# Altium schematic symbol library IO-testing-mezzanine.SchLib: 9 symbols
Pins are listed as number, name and electrical type; pins without a type are passive.

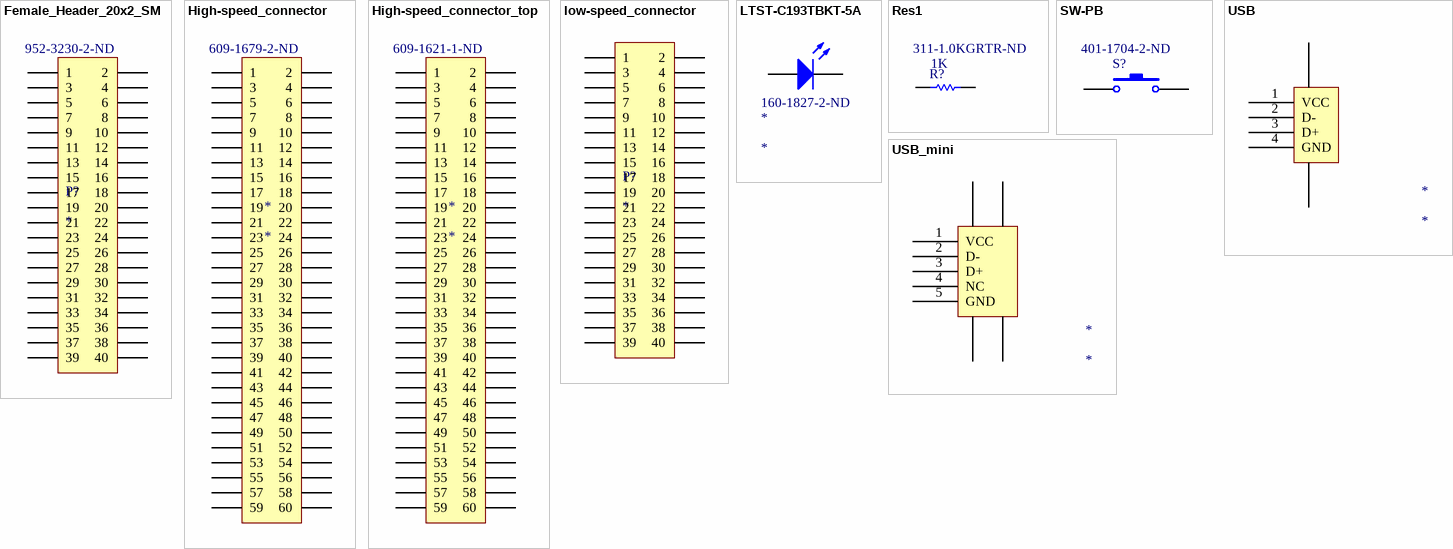
[diagram p0: symbols Female_Header_20x2_SM to USB_mini]

## Female_Header_20x2_SM
designator P?  Supplier Part Number 1: 952-3230-2-ND
Supplier 1: Digi-Key
footprint Female_Header_20x2_SM (Surface mount Female header / 2.54mm pitch)
pins: 1, 2, 3, 4, 5, 6, 7, 8, 9, 10, 11, 12, 13, 14, 15, 16, 17, 18, 19, 20, 21, 22, 23, 24, 25, 26, 27, 28, 29, 30, 31, 32, 33, 34, 35, 36, 37, 38, 39, 40

## High-speed_connector
designator *  Supplier Part Number 1: 609-1679-2-ND
Supplier 1: Digi-Key
footprint high-speed_connector (through hole low-speed connector / 2mm pitch)
pins: 1, 2, 3, 4, 5, 6, 7, 8, 9, 10, 11, 12, 13, 14, 15, 16, 17, 18, 19, 20, 21, 22, 23, 24, 25, 26, 27, 28, 29, 30, 31, 32, 33, 34, 35, 36, 37, 38, 38 60, 39, 39 57, 40, 41, 42, 43, 44, 45, 46, 47, 48, 49, 50, 51, 52, 53, 54, 55, 56, 58, 59

## High-speed_connector_top
designator *  Supplier Part Number 1: 609-1621-1-ND
Manufacturer: Amphenol FCI; Manufacturer Part Number: 61082-062402LF; Description: CONN RECEPT 60POS .8MM DUAL SMD; Connector Type: Receptacle, Outer Shroud Contacts; Number of Positions: 60; Pitch: 0.031" (0.80mm); Mated Stacking Heights: 9mm, 10mm, 11mm, 12mm; Supplier 1: Digi-Key; RoHS: RoHS Compliant; Category: Connectors, Interconnects; Stock 1: 4; Pricing 1: 1=8.5, 10=8.143, 25=7.4344, 50=7.0804, 100=6.7264, 250=6.0184 (CAD); Packaging: Cut Tape (CT); Part Status: Active; Number of Rows: 2; Mounting Type: Surface Mount; Features: Board Guide; Contact Finish: Gold; Contact Finish Thickness: 8µin (0.20µm); Height Above Board: 0.303" (7.70mm); ComponentLink1URL: http://portal.fciconnect.com/Comergent//fci/drawing/61082.pdf; ComponentLink1Description: http://portal.fciconnect.com/Comergent//fci/drawing/61082.pdf
footprint high-speed_connector_top (high-speed connector)
pins: 1, 2, 3, 4, 5, 6, 7, 8, 9, 10, 11, 12, 13, 14, 15, 16, 17, 18, 19, 20, 21, 22, 23, 24, 25, 26, 27, 28, 29, 30, 31, 32, 33, 34, 35, 36, 37, 38, 38 60, 39, 39 57, 40, 41, 42, 43, 44, 45, 46, 47, 48, 49, 50, 51, 52, 53, 54, 55, 56, 58, 59

## low-speed_connector
designator P?
footprint low-speed_connector_TH (through hole low-speed connector / 2mm pitch)
pins: 1, 2, 3, 4, 5, 6, 7, 8, 9, 10, 11, 12, 13, 14, 15, 16, 17, 18, 19, 20, 21, 22, 23, 24, 25, 26, 27, 28, 29, 30, 31, 32, 33, 34, 35, 36, 37, 38, 39, 40

## LTST-C193TBKT-5A
designator *  Supplier Part Number 1: 160-1827-2-ND
LED BLUE CLEAR 0603 SMD; Manufacturer: Lite-On Inc.; Manufacturer Part Number: LTST-C193TBKT-5A; Lens Color: Colorless; Millicandela Rating: 15mcd; Lens Style/Size: Rectangle with Flat Top, 1.15mm x 0.80mm; Voltage - Forward (Vf) (Typ): 2.8V; Current - Test: 5mA; Viewing Angle: 130°; Wavelength - Dominant: 470nm; Wavelength - Peak: 468nm; Supplier 1: Digi-Key; RoHS: RoHS Compliant; Category: Optoelectronics; Stock 1: 456000; Pricing 1: 3000=0.091, 6000=0.0819, 15000=0.0728, 30000=0.06825, 75000=0.06142, 150000=0.05915 (CAD); Packaging: Tape & Reel (TR); Part Status: Active; Color: Blue; Lens Transparency: Clear; Mounting Type: Surface Mount; Features: -; Package / Case: 0603 (1608 Metric); Supplier Device Package: Chip LED; Size / Dimension: 1.60mm L x 0.80mm W; Height (Max): 0.45mm; ComponentLink1URL: http://media.digikey.com/pdf/Data%20Sheets/Lite-On%20PDFs/LTST-C193TBKT-5A.pdf; ComponentLink1Description: http://media.digikey.com/pdf/Data%20Sheets/Lite-On%20PDFs/LTST-C193TBKT-5A.pdf
footprint LED_0603 (Chip LED, 2-Leads, Body 1.6x0.8mm, IPC Medium Density)
pins: 1 A, 2 K

## Res1
designator R?  value 1K  Supplier Part Number 1: 311-1.0KGRTR-ND
Resistor; Published: 8-Jun-2000; LatestRevisionDate: 17-Jul-2002; LatestRevisionNote: Re-released for DXP Platform.; PackageReference: AXIAL-0.3; Publisher: Altium Limited; PackageDescription: Axial Device, Thru-Hole; 2 Leads; 0.3 in Pin Spacing; Supplier 1: Digi-Key
footprint 0603
pins: 1, 2

## SW-PB
designator S?  Supplier Part Number 1: 401-1704-2-ND
Switch; Manufacturer: C&K; Manufacturer Part Number: KSR223GLFG; Circuit: SPST-NO; Switch Function: Off-Mom; Contact Rating @ Voltage: 0.01A @ 32VDC; Actuator Type: Standard; Actuator Height off PCB, Vertical: 2.50mm; Actuator Orientation: Top Actuated; Outline: 6.00mm x 3.80mm; Illumination: Non-Illuminated; Operating Force: 200gf; Ingress Protection: IP50 - Dust Protected; Actuator Material: Rubber; Switch Travel: 0.30mm; Mechanical Life: 100,000 Cycles; Published: 24-Mar-1999; LatestRevisionDate: 17-Jul-2002; LatestRevisionNote: Re-released for DXP Platform.; PackageReference: SPST-2; Publisher: Altium Limited; PackageDescription: Switch; 2 Leads; Supplier 1: Digi-Key; RoHS: RoHS Compliant; Category: Switches; Stock 1: 37500; Pricing 1: 2500=0.58856, 5000=0.54797 (CAD); Packaging: Tape & Reel (TR); Part Status: Active; Mounting Type: Surface Mount; Actuator Length, Right Angle: -; Termination Style: Gull Wing; Illumination Type, Color: -; Illumination Voltage (Nominal): -; Features: -; Operating Temperature: -40°C ~ 125°C; ComponentLink1URL: http://www.ckswitches.com/media/1466/ksr.pdf; ComponentLink1Description: http://www.ckswitches.com/media/1466/ksr.pdf
footprint SW-PB (Chip LED, 2-Leads, Body 1.6x0.8mm, IPC Medium Density)
pins: 1, 2

## USB
designator *
Manufacturer: Amphenol Commercial Products; Manufacturer Part Number: UE27AC54100; Connector Type: USB - A; Number of Contacts: 4; Gender: Receptacle; Specifications: USB 2.0; Number of Ports: 1; Current Rating: 1A per Contact; Voltage - Rated: 30VAC; Mating Cycles: 1500; Shielding: Shielded; Material Flammability Rating: UL94 V-0; Supplier 1: Digi-Key; RoHS: RoHS Compliant; Category: Connectors, Interconnects; Stock 1: 47486; Pricing 1: 1=0.54, 10=0.507, 25=0.4568, 50=0.4058, 100=0.389, 250=0.35512, 500=0.33822, 1000=0.27904, 2500=0.25367 (CAD); Packaging: Tray; Part Status: Active; Mounting Type: Through Hole, Right Angle; Mounting Feature: Horizontal; Termination: Solder; Features: Board Lock; Ingress Protection: -; Operating Temperature: -40°C ~ 85°C; Contact Finish: Gold; Shell/Shielding Material: Copper Alloy; Insulation Color: Black; ComponentLink1URL: https://www.amphenolcanada.com/ProductSearch/drawings/AC/UE27ACX4X0X.pdf; ComponentLink1Description: https://www.amphenolcanada.com/ProductSearch/drawings/AC/UE27ACX4X0X.pdf; Supplier Part Number 1: UE27AC54100-ND
footprint USB
footprint USB_a (Mini USB)
pins: 1 VCC (power), 2 D-, 3 D+, 4 GND (power), 5 GND (power), 6 GND (power)

## USB_mini
designator *
Manufacturer: Amphenol Commercial Products; Manufacturer Part Number: UE27AC54100; Connector Type: USB - A; Number of Contacts: 4; Gender: Receptacle; Specifications: USB 2.0; Number of Ports: 1; Current Rating: 1A per Contact; Voltage - Rated: 30VAC; Mating Cycles: 1500; Shielding: Shielded; Material Flammability Rating: UL94 V-0; RoHS: RoHS Compliant; Category: Connectors, Interconnects; Packaging: Tray; Part Status: Active; Mounting Type: Through Hole, Right Angle; Mounting Feature: Horizontal; Termination: Solder; Features: Board Lock; Ingress Protection: -; Operating Temperature: -40°C ~ 85°C; Contact Finish: Gold; Shell/Shielding Material: Copper Alloy; Insulation Color: Black; ComponentLink1URL: https://www.amphenolcanada.com/ProductSearch/drawings/AC/UE27ACX4X0X.pdf; ComponentLink1Description: https://www.amphenolcanada.com/ProductSearch/drawings/AC/UE27ACX4X0X.pdf; Supplier 1: Digi-Key; Stock 1: 3750; Pricing 1: 750=0.36963, 1500=0.32856, 3750=0.30803, 5250=0.29776, 18750=0.27312, 37500=0.26696 (CAD); ComponentLink2URL: http://www.cui.com/product/resource/digikeypdf/uj2-mabh-smt.pdf; ComponentLink2Description: http://www.cui.com/product/resource/digikeypdf/uj2-mabh-smt.pdf; Supplier Part Number 1: 102-4004-2-ND
footprint USB_mini (Mini USB)
pins: 1 VCC (power), 2 D-, 3 D+, 4 NC, 5 GND (power), 6 GND (power), 7 GND (power), 8 GND (power), 9 GND (power)